# EAGLE library part CCS811B-JOPD500 (library SamacSys_Parts)
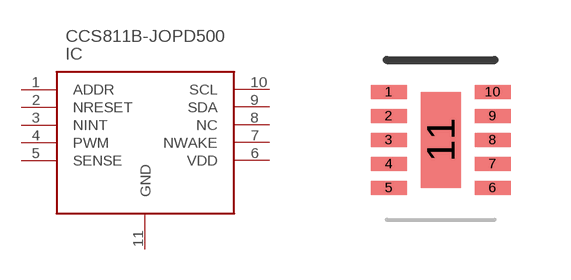
[diagram p19: symbol with the pads of LGA-10; footprint LGA-10]

Designator prefix IC

## CCS811B-JOPD500  [LGA-10]
1  ADDR
2  NRESET
3  NINT
4  PWM
5  SENSE
6  VDD  pwr
7  NWAKE
8  NC  nc
9  SDA
10  SCL
11  GND  pwr

## Footprint LGA-10 (pad centres in mm)
LGA-12
smd 0.9 x 0.35: 1 -1.3,1.2; 2 -1.3,0.6; 3 -1.3,0; 4 -1.3,-0.6; 5 -1.3,-1.2; 6 1.3,-1.2; 7 1.3,-0.6; 8 1.3,0; 9 1.3,0.6; 10 1.3,1.2
smd 1 x 2.4: 11 0,0